# Altium integrated library Transistors.IntLib: 27 symbols
Pins are listed as number, name and electrical type; pins without a type are passive.

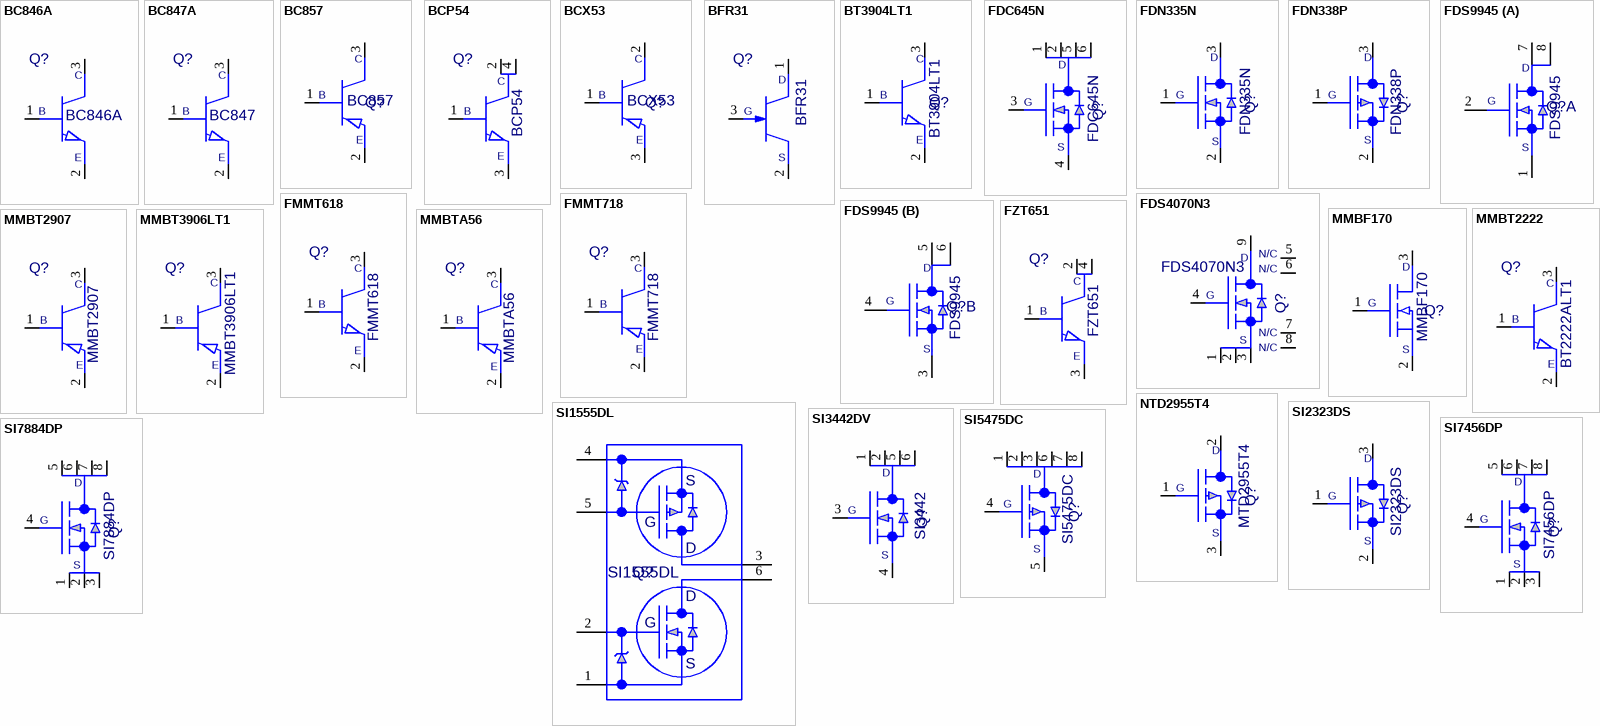
[diagram p0: symbols BC846A to SI7884DP]

## BC846A
designator Q?, comment value BC846A  (hidden comment: 60198-0048)
Transistor, BC846A; ECAD_Revision: 1; Librarian: US; PartNumber: 60198-0048; HelpURL: K:\ACCELEDA\PDF Spec Files\Transistors\bc846a.pdf; Item: *
footprint SOT23
pins: 1 B, 2 E, 3 C

## BC847A
designator Q?, comment value BC847  (hidden comment: TXNB/BC847)
Transistor, BC847A, general purpose; ECAD_Revision: 1; Librarian: UK; PartNumber: TXNB/BC847; Item: *
footprint SOT23
pins: 1 B, 2 E, 3 C

## BC857
designator Q?, comment value BC857  (hidden comment: TXPY/BC857/A)
Transistor, BC857; ECAD_Revision: 2; Librarian: UK; PartNumber: TXPY/BC857/A; Item: *
footprint SOT23
pins: 1 B, 2 E, 3 C

## BCP54
designator Q?, comment value BCP54  (hidden comment: AWT25-500025)
Transistor, BCP54; Power Rating: 45V; ECAD_Revision: 2; Librarian: US; PartNumber: AWT25-500025; Item: *; HelpURL: K:\ACCELEDA\PDF Spec Files\Transistors\BCP54.pdf
footprint SOT-223
pins: 1 B, 2 C, 3 E, 4 C

## BCX53
designator Q?, comment value BCX53  (hidden comment: 60198-0063)
Transistor, BCX53; ECAD_Revision: 1; Librarian: US; PartNumber: 60198-0063; HelpURL: K:\ACCELEDA\PDF Spec Files\Transistors\BCX51X.PDF; ComponentLink1URL: K:\ACCELEDA\PDF Spec Files\Transistors\CXT4033.PDF; Item: *
footprint SOT89
pins: 1 B, 2 C, 3 E

## BFR31
designator Q?, comment value BFR31  (hidden comment: FXN/BFR31)
Transistor, BFR31; ECAD_Revision: 2; Librarian: UK; PartNumber: FXN/BFR31; Item: *
footprint SOT23
pins: 1 D, 2 S, 3 G
1 alternate drawing of the same symbol

## BT3904LT1
designator Q?, comment value BT3904LT1  (hidden comment: TMP_US_BT3904)
Transistor, BT3904LT1; ECAD_Revision: 1; Librarian: US; PartNumber: TMP_US_BT3904; Item: *
footprint SOT23
pins: 1 B, 2 E, 3 C

## FDC645N
designator Q?, comment value FDC645N  (hidden comment: AWT25-500085)
Transistor, FDC645N; ECAD_Revision: 2; Librarian: US; PartNumber: AWT25-500085; HelpURL: K:\ACCELEDA\PDF Spec Files\Transistors\FDC645N.pdf; Item: *
footprint SUPERSOT-6
pins: 1 S, 2 S, 3 S, 4 G, 5 D, 6 D

## FDN335N
designator Q?, comment value FDN335N  (hidden comment: 60198-5021)
Transistor, FDN335N; ECAD_Revision: 1; Librarian: US; PartNumber: 60198-5021; HelpURL: K:\ACCELEDA\PDF Spec Files\Transistors\fdn335n.pdf; Item: *
footprint SOT23
pins: 1 G, 2 S, 3 D

## FDN338P
designator Q?, comment value FDN338P  (hidden comment: 60198-5047)
Transistor, FDN338P; ECAD_Revision: 1; Librarian: US; PartNumber: 60198-5047; HelpURL: K:\ACCELEDA\PDF Spec Files\Transistors\fdn338p.pdf; Item: *
footprint SOT23
pins: 1 G, 2 S, 3 D

## FDS4070N3
designator Q?, comment value FDS4070N3  (hidden comment: AWT25-500036)
Transistor, FDS4070N3; Power Rating: 40V; ECAD_Revision: 1; Librarian: US; PartNumber: AWT25-500036; HelpURL: K:\ACCELEDA\PDF Spec Files\Transistors\FDS4070N3.pdf; Item: *
footprint SOIC8-PWRPAD (SOIC WITH POWER PAD)
pins: 1 S, 2 S, 3 S, 4 G, 5 N/C, 6 N/C, 7 N/C, 8 N/C, 9 D

## FDS9945
designator Q?, comment value FDS9945  (hidden comment: 60198-5039)
Transistor, FDS9945; ECAD_Revision: 1; Librarian: US; PartNumber: 60198-5039; HelpURL: K:\ACCELEDA\PDF Spec Files\Regulators\FDS9945.PDF; Item: *
footprint SOIC8
part A pins: 1 S, 2 G, 7 D, 8 D
part B pins: 3 S, 4 G, 5 D, 6 D

## FMMT618
designator Q?, comment value FMMT618  (hidden comment: AWT25-500026)
Transistor, FMMT618; ECAD_Revision: 2; Librarian: US; PartNumber: AWT25-500026; HelpURL: K:\ACCELEDA\PDF Spec Files\Transistors\FMMT618.pdf; Item: *
footprint SOT23
pins: 1 B, 2 E, 3 C

## FMMT718
designator Q?, comment value FMMT718  (hidden comment: AWT25-500027)
Transistor, FMMT718; ECAD_Revision: 2; Librarian: US; PartNumber: AWT25-500027; HelpURL: K:\ACCELEDA\PDF Spec Files\Transistors\FMMT718.pdf; Item: *
footprint SOT23
pins: 1 B, 2 E, 3 C

## FZT651
designator Q?, comment value FZT651  (hidden comment: TXNB/FZT651)
Transistor, FZT651; Power Rating: 80V; ECAD_Revision: 1; Librarian: UK; PartNumber: TXNB/FZT651; Item: *
footprint SOT-223
pins: 1 B, 2 C, 3 E, 4 C

## MMBF170
designator Q?, comment value MMBF170  (hidden comment: 60198-5013)
Transistor, MMBF170; ECAD_Revision: 1; Librarian: US; PartNumber: 60198-5013; HelpURL: K:\ACCELEDA\PDF Spec Files\Transistors\MMBF170.pdf; Item: *
footprint SOT23
pins: 1 G, 2 S, 3 D

## MMBT2222
designator Q?, comment value BT2222ALT1  (hidden comment: 60198-0022)
Transistor, BT2222ALT1; ECAD_Revision: 1; Librarian: US; PartNumber: 60198-0022; Item: *
footprint SOT23
pins: 1 B, 2 E, 3 C

## MMBT2907
designator Q?, comment value MMBT2907  (hidden comment: 60198-0014)
Transistor, MMBT2907; ECAD_Revision: 1; Librarian: US; PartNumber: 60198-0014; HelpURL: K:\ACCELEDA\PDF Spec Files\Transistors\mmbt2907.pdf; Item: *
footprint SOT23
pins: 1 B, 2 E, 3 C

## MMBT3906LT1
designator Q?, comment value MMBT3906LT1  (hidden comment: 60198-0030)
Transistor, MMBT3906LT1; ECAD_Revision: 1; Librarian: US; PartNumber: 60198-0030; HelpURL: K:\ACCELEDA\PDF Spec Files\Transistors\MMBT3906LT1-D.PDF; Item: *
footprint SOT23
pins: 1 B, 2 E, 3 C

## MMBTA56
designator Q?, comment value MMBTA56  (hidden comment: 60198-0055)
Transistor, MMBTA56; ECAD_Revision: 1; Librarian: US; PartNumber: 60198-0055; HelpURL: K:\ACCELEDA\PDF Spec Files\Transistors\mmbtA56.PDF; Item: *
footprint SOT23
pins: 1 B, 2 E, 3 C

## NTD2955T4
designator Q?, comment value MTD2955T4  (hidden comment: FXP/RFD15P05SM)
Transistor, MTD2955T4; ECAD_Revision: 2; Librarian: UK; PartNumber: FXP/RFD15P05SM; Item: *
footprint DPAK
pins: 1 G, 2 D, 3 S

## SI1555DL
designator Q?, comment value SI1555DL  (hidden comment: AWT25-500061)
Transistor, SI1555DL; ECAD_Revision: 1; Librarian: US; PartNumber: AWT25-500061; HelpURL: K:\ACCELEDA\PDF Spec Files\Transistors\Si555DL.PDF; Item: *
footprint SC70-6
pins: 1 S1, 2 G1, 3 D2, 4 S2, 5 G2, 6 D1
text: S; G; D

## SI2323DS
designator Q?, comment value SI2323DS  (hidden comment: AWT25-500087)
Transistor, SI2323DS; ECAD_Revision: 2; Librarian: US; PartNumber: AWT25-500087; HelpURL: K:\ACCELEDA\PDF Spec Files\Transistors\SI2323DS.pdf; Item: *
footprint SOT23
pins: 1 G, 2 S, 3 D

## SI3442DV
designator Q?, comment value SI3442  (hidden comment: FXN/SI3442DV)
Transistor, SI3442DV; ECAD_Revision: 1; Librarian: US; PartNumber: FXN/SI3442DV; Item: *
footprint SUPERSOT-6
pins: 1 S, 2 S, 3 S, 4 G, 5 D, 6 D

## SI5475DC
designator Q?, comment value SI5475DC  (hidden comment: AWT25-500086)
Transistor, SI5475DC; ECAD_Revision: 2; Librarian: US; PartNumber: AWT25-500086; HelpURL: K:\ACCELEDA\PDF Spec Files\Transistors\SI5475DC.pdf; Item: *
footprint 1206-8 ChipFET
pins: 1 D, 2 D, 3 D, 4 G, 5 S, 6 D, 7 D, 8 D

## SI7456DP
designator Q?, comment value SI7456DP  (hidden comment: AWT25-500035)
Transistor, SI7456DP; ECAD_Revision: 2; Librarian: US; PartNumber: AWT25-500035; HelpURL: K:\ACCELEDA\PDF Spec Files\Transistors\SI7456DP.pdf; Item: *
footprint PowerPAK SO-8 (Vishay PowerPAK SO-8)
pins: 1 S, 2 S, 3 S, 4 G, 5 D, 6 D, 7 D, 8 D

## SI7884DP
designator Q?, comment value SI7884DP  (hidden comment: AWT25-500036)
Transistor, SI7884DP; Power Rating: 40V; ECAD_Revision: 2; Librarian: US; PartNumber: AWT25-500036; HelpURL: K:\ACCELEDA\PDF Spec Files\Transistors\SI7884DP.pdf; Item: *
footprint PowerPAK SO-8 (Vishay PowerPAK SO-8)
pins: 1 S, 2 S, 3 S, 4 G, 5 D, 6 D, 7 D, 8 D